# Altium schematic symbol library PogoPinConnPitch2mm3PinSMDHorizontal.SchLib: 1 symbol
Pins are listed as number, name and electrical type; pins without a type are passive.

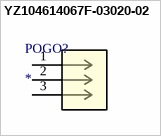
[diagram p0: symbol YZ104614067F-03020-02]

## YZ104614067F-03020-02
designator POGO?
Pogo pin connector, Pitch 2mm, SMD, Rectangular Angle, 3 Pins, Male; Manufacturer Part Number: YZ104614067F-03020-02
footprint YZ104614067F-03020-02 (Pogo pin connector, Pitch 2mm, SMD, Rectangular Angle, 3 Pins, Male)
pins: 1, 2, 3